# Altium footprint library pedals-pcb.PCBLIB: 3 footprints
Each footprint in its own frame and in the unit in brackets; x right, y up, seen from the top. Pads: shape width x height; smd on the part's side, far side on the other; paste and mask are expansions set on the pad; w line width, h text height; cw(c..) or ccw(c..) is an arc to the next point about the centre after c.
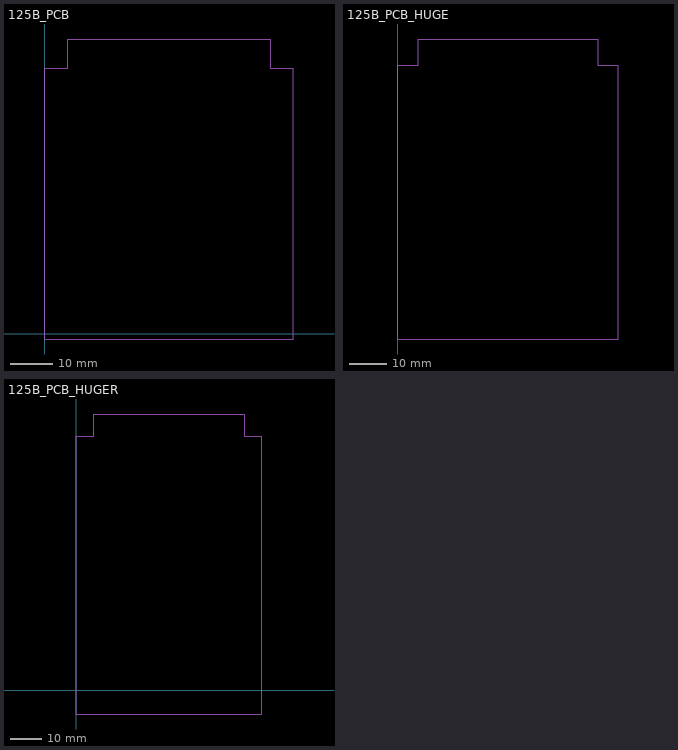
[diagram p0: the footprints below, top view; thin cyan lines are the x and y axes]

## 125B_PCB [mm]
Mechanical 1:
  lines w0: 0,-1.27 0,63 5.5,63 5.5,70 53.5,70 53.5,63 59,63 59,-1.27 0,-1.27

## 125B_PCB_HUGE [mm]
Mechanical 1:
  lines w0: 0,7.62 0,80.78 5.5,80.78 5.5,87.78 53.5,87.78 53.5,80.78 59,80.78 59,7.62 0,7.62

## 125B_PCB_HUGER [mm]
Mechanical 1:
  lines w0: 0,-7.62 0,80.78 5.5,80.78 5.5,87.78 53.5,87.78 53.5,80.78 59,80.78 59,-7.62 0,-7.62